# Altium footprint library 0ZCJ0020FF2E.PcbLib: 1 footprints
Each footprint in its own frame and in the unit in brackets; x right, y up, seen from the top. Pads: shape width x height; smd on the part's side, far side on the other; paste and mask are expansions set on the pad; w line width, h text height; cw(c..) or ccw(c..) is an arc to the next point about the centre after c.
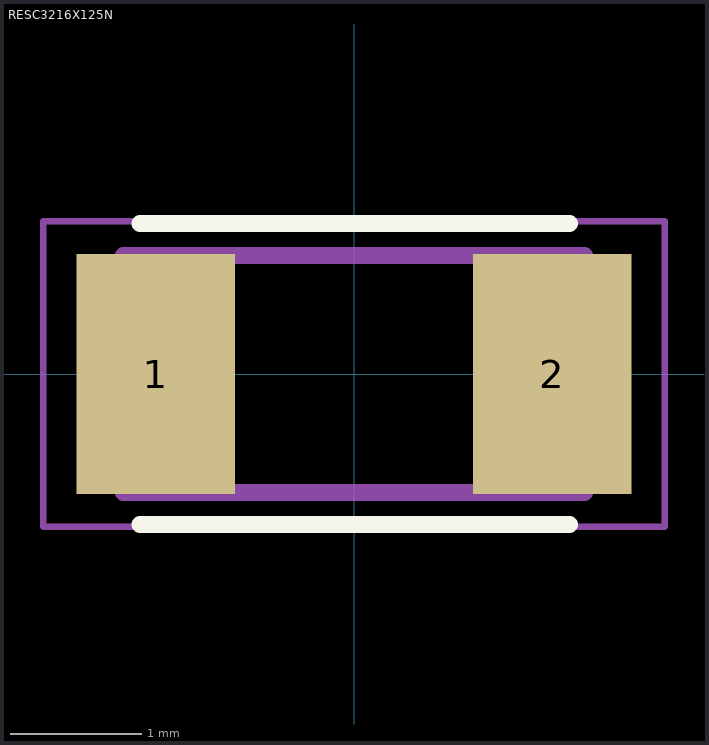
[diagram p0: the footprint, top view; thin cyan lines are the x and y axes]

## RESC3216X125N [mm]
pads (2):
  rect 1.2x1.82 smd: 1(-1.505,0) 2(1.505,0)
Top Overlay:
  lines w0.127: -1.625,-1.143 1.635,-1.143 ; -1.625,1.143 1.635,1.143
Mechanical 4:
  lines w0.127: -1.75,-0.9 -1.75,0.9 ; -1.75,-0.9 1.75,-0.9 ; -1.75,-0.9 -1.75,0.9 ; -1.75,-0.9 1.75,-0.9 ; -1.75,0.9 1.75,0.9 ; -1.75,0.9 1.75,0.9 ; 1.75,-0.9 1.75,0.9 ; 1.75,-0.9 1.75,0.9
Mechanical 16:
  lines w0.05: -2.36,-1.16 -2.36,1.16 2.36,1.16 2.36,-1.16 -2.36,-1.16
3D body "0ZCJ0010FF2E--3DModel-STEP-56544.STEP": height 0.43, standoff -0.43, extent -1.625,-0.825 1.625,0.825